# Altium integrated library LMK107BJ475MAHT.IntLib: 1 symbol
Pins are listed as number, name and electrical type; pins without a type are passive.

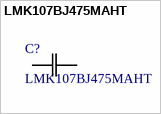
[diagram p0: symbol LMK107BJ475MAHT]

## LMK107BJ475MAHT
designator C?
No Description Available; Manufacturer_Name: TAIYO YUDEN; Copyright: Copyright (C) 2025 Ultra Librarian. All rights reserved.; Manufacturer_Part_Number: LMK107BJ475MAHT
footprint LMK107_TAY
pins: 1, 2